# Altium schematic symbol library Power_Board_Parts_Library.SCHLIB: 12 symbols
Pins are listed as number, name and electrical type; pins without a type are passive.

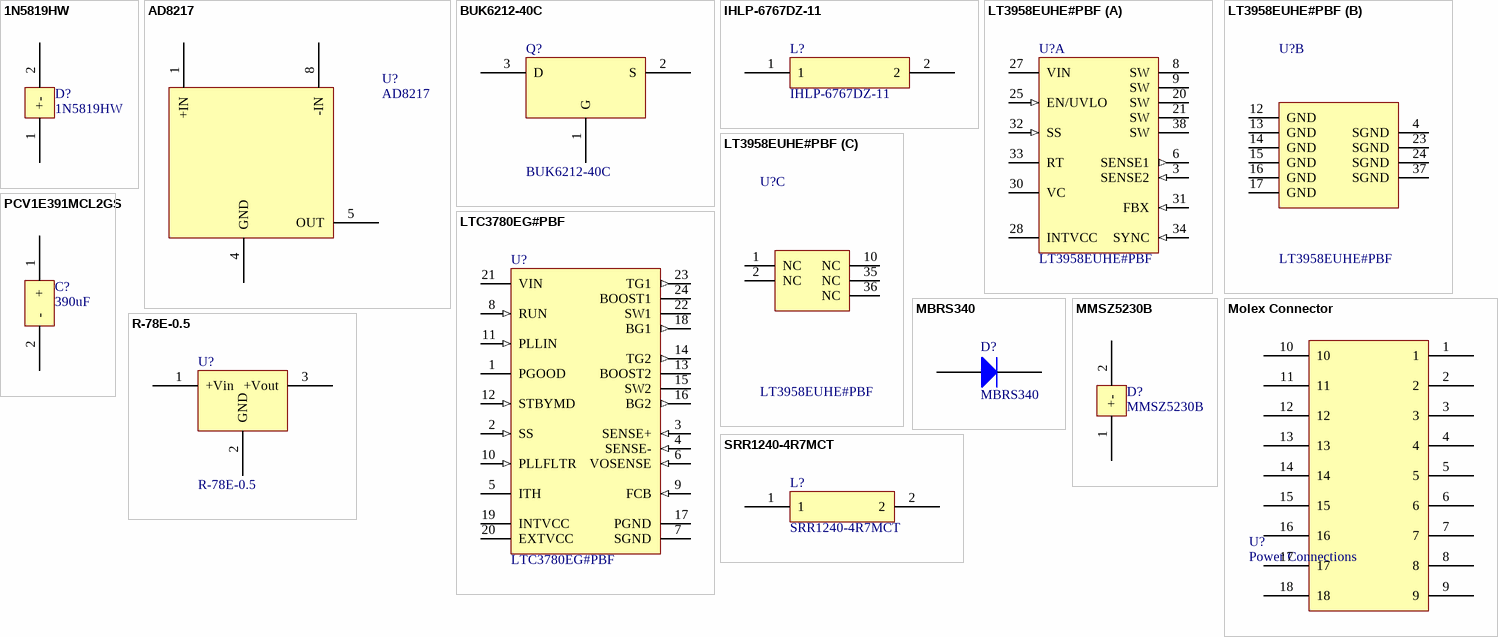
[diagram p0: symbols 1N5819HW to SRR1240-4R7MCT]

## 1N5819HW
designator D?
1A Schottky Barrier Rectifier
footprint 1N5819HW
pins: 1 +, 2 -

## AD8217
designator U?
Current Shunt Moniter
footprint AD8217
pins: 1 +IN, 4 GND, 5 OUT, 8 -IN

## BUK6212-40C
designator Q?
N-Channel TrenchMOS Intermediate Level FET
footprint BUK6212-40C
pins: 1 G, 2 S, 3 D

## IHLP-6767DZ-11
designator L?
Inductor
footprint IHLP-6767DZ-11
pins: 1, 2

## LT3958EUHE#PBF
designator U?
LT3958; Manufacturer: Linear Technology; Frequency Adjust Range: 100kHz - 1MHz; Number of Outputs: 1; ComponentLink1Description: Manufacturer URL; ComponentLink1URL: http://www.linear.com/; ComponentLink2Description: Datasheet; ComponentLink2URL: http://cds.linear.com/docs/en/datasheet/3958f.pdf; ComponentLink3Description: Package Specification; ComponentLink3URL: http://cds.linear.com/docs/en/packaging/QFN_28_05-08-1836.pdf; Mounting Technology: Surface Mount; PackageDescription: 28-Pin Plastic QFN, Body 5 x 6 mm, Pitch 0.5 mm; PackageReference: UHE-36; PackageVersion: Rev. D, 02/2012; PartNumber: LT3958EUHE#PBF; RoHS: TRUE; Supplier 1: Digi-Key; Supplier 2: Farnell; Supplier 3: Newark; Supplier Part Number 1: LT3958EUHE#PBF-ND; Supplier Part Number 2: 2294964; Supplier Part Number 3: 78R9566
footprint LT3958
part A pins: 3 SENSE2 (in) "The Current Sense Input for the Control  Loop. Connect this pin to SENSE1 pin directly or through  a low pass filter (connect this pin to SENSE1 pin through  a resistor, and to SGND through a capacitor).", 6 SENSE1 (out) "The Current Sense Output of the Internal  N-channel MOSFET. Connect this pin to SENSE2 pin  directly or through a low pass filter (connect this pin to  SENSE1 pin through a resistor, then connect SENSE2 to  SGND through a capacitor).", 8 SW (power) "Drain of  Internal Power N-channel MOSFET.", 9 SW (power) "Drain of  Internal Power N-channel MOSFET.", 20 SW (power) "Drain of  Internal Power N-channel MOSFET.", 21 SW (power) "Drain of  Internal Power N-channel MOSFET.", 25 EN/UVLO (in) "Shutdown and Undervoltage Detect  Pin. An accurate 1.22V (nominal) falling threshold with  externally programmable hysteresis detects when power  is okay to enable switching. Rising hysteresis is generated  by the external resistor divider and an accurat", 27 VIN (power) "Input Supply Pin. VIN pin can be locally  bypassed with a capacitor to GND (not SGND).", 28 INTVCC (power) "Regulated Supply for Internal Loads  and Gate Driver. Supplied from VIN and regulated to  7.2V (typical). INTVCC must be bypassed to SGND with a  minimum of 4.7µF capacitor placed close to pin. INTVCC  can be connected directly to VIN, if VIN is less tha", 30 VC "Error Amplifier Compensation Pin. Used to  stabilize the voltage loop with an external RC network.  Place compensation components between the VC pin  and SGND.", 31 FBX (in) "Positive and Negative Feedback Pin. Receives  the feedback voltage from the external resistor  divider between the output and SGND. Also modulates the  switching frequency during start-up and fault conditions  when FBX is close to SGND.", 32 SS (in) "Soft-Start Pin. This pin modulates compensation  pin voltage (VC) clamp. The soft-start interval is  set with an external capacitor between SS pin and SGND.  The pin has a 10µA (typical) pull-up current source to  an internal 2.5V rail. The soft-start pi", 33 RT "Switching Frequency Adjustment Pin. Set  the frequency using a resistor to SGND. Do not leave this  pin open.", 34 SYNC (in) "Frequency Synchronization Pin. Used to  synchronize the switching frequency to an outside clock.  If this feature is used, an RT resistor should be chosen  to program a switching frequency 20% slower than the  SYNC pulse frequency. Tie the SYNC pin to SG", 38 SW (power) "Drain of  Internal Power N-channel MOSFET."
part B pins: 4 SGND (power) "Signal  Ground. All small-signal components should connect to  this ground. SGND is connected to GND inside the IC to  ensure Kelvin connection for the internal switch current  sensing. Do not connect SGND and GND externally.", 12 GND (power) "Ground. These pins connect  to the source terminal of internal power N-channel  MOSFET through an internal sense resistor. GND is connected  to SGND inside the IC to ensure Kelvin connection  for the internal switch current sensing. Do not connect  GND a", 13 GND (power) "Ground. These pins connect  to the source terminal of internal power N-channel  MOSFET through an internal sense resistor. GND is connected  to SGND inside the IC to ensure Kelvin connection  for the internal switch current sensing. Do not connect  GND a", 14 GND (power) "Ground. These pins connect  to the source terminal of internal power N-channel  MOSFET through an internal sense resistor. GND is connected  to SGND inside the IC to ensure Kelvin connection  for the internal switch current sensing. Do not connect  GND a", 15 GND (power) "Ground. These pins connect  to the source terminal of internal power N-channel  MOSFET through an internal sense resistor. GND is connected  to SGND inside the IC to ensure Kelvin connection  for the internal switch current sensing. Do not connect  GND a", 16 GND (power) "Ground. These pins connect  to the source terminal of internal power N-channel  MOSFET through an internal sense resistor. GND is connected  to SGND inside the IC to ensure Kelvin connection  for the internal switch current sensing. Do not connect  GND a", 17 GND (power) "Ground. These pins connect  to the source terminal of internal power N-channel  MOSFET through an internal sense resistor. GND is connected  to SGND inside the IC to ensure Kelvin connection  for the internal switch current sensing. Do not connect  GND a", 23 SGND (power) "Signal  Ground. All small-signal components should connect to  this ground. SGND is connected to GND inside the IC to  ensure Kelvin connection for the internal switch current  sensing. Do not connect SGND and GND externally.", 24 SGND (power) "Signal  Ground. All small-signal components should connect to  this ground. SGND is connected to GND inside the IC to  ensure Kelvin connection for the internal switch current  sensing. Do not connect SGND and GND externally.", 37 SGND (power) "Signal  Ground. All small-signal components should connect to  this ground. SGND is connected to GND inside the IC to  ensure Kelvin connection for the internal switch current  sensing. Do not connect SGND and GND externally."
part C pins: 1 NC "No Internal Connection. Leave  these pins open or connect them to the adjacent pins.", 2 NC "No Internal Connection. Leave  these pins open or connect them to the adjacent pins.", 10 NC "No Internal Connection. Leave  these pins open or connect them to the adjacent pins.", 35 NC "No Internal Connection. Leave  these pins open or connect them to the adjacent pins.", 36 NC "No Internal Connection. Leave  these pins open or connect them to the adjacent pins."

## LTC3780EG#PBF
designator U?
Buck-boost Controller, Constant Frequency, Current Mode Control with Power Good Output, 24-pin SOP (G-24), -40 to 85 degC, Pb-Free; Manufacturer: Linear Technology; Frequency Sync Range: 200kHz - 400kHz; Number of Outputs: 1; PackageDesciption: 24-Pin Plastic SSOP, Body 8.2 x 5.3 mm, Pitch 0.65 mm; ComponentLink1Description: Manufacturer URL; ComponentLink1URL: http://www.linear.com/; ComponentLink2Description: Datasheet; ComponentLink2URL: http://cds.linear.com/docs/en/datasheet/3780ff.pdf; ComponentLink3Description: Package Specification; ComponentLink3URL: http://cds.linear.com/docs/en/packaging/SSOP_24_05-08-1640.pdf; DatasheetVersion: Rev. F; Mounting Technology: Surface Mount; PackageReference: G-24; PackageVersion: Jun-10; PartNumber: LTC3780EG#PBF; RoHS: TRUE; Supplier 1: Digi-Key; Supplier 2: Farnell; Supplier 3: Newark; Supplier Part Number 1: LTC3780EG#PBF-ND; Supplier Part Number 2: 1273545; Supplier Part Number 3: 56M8395
footprint LTC3780 24-Leaqd Plastic SSOP
pins: 1 PGOOD (oc) "Open-Drain Logic Output. PGOOD is puled to ground when the output voltage is not within +/-7.5% of the regulation point.", 2 SS (in) "Soft-start reduces the input power sources' surge currents by gradually increasing the controller's current limit. A minimum value of 6.8nF is recommended on this pin.", 3 SENSE+ (in) "The (+) Input to the Current Sense and Reverse Current Detect Comparators. The ITH pin voltage and built-in offsets between SENSE- and SENSE+ pins, in conjunction with RSENSE, set the current trip threshold.", 4 SENSE- (in) "The (-) Input to the Current Sense and Reverse Current Detect Comparators.", 5 ITH "Current Control Threshold and Error Amplifier Compensation Point. The current comparator threshold increases with this control voltage. The voltage ranges from 0V to 2.4V.", 6 VOSENSE (in) "Error Amplifier Feedback Input. This pin connects the error amplifier input to an external resistor divider from VOUT.", 7 SGND (power) "Signal Ground. All small-signal components and compensation components should connect to this ground, which should be connected to PGND at a single point. The QFN exposed pad must be soldered to PCB ground for electrical (See Datasheet)", 8 RUN (in) "Run Control Input. Forcing the RUN pin below 1.5V causes the IC to shut down the switching regulator circuitry. There is a 100k resistor between the RUN pin and SGND in the IC. Do not appy > 6V to this pin.", 9 FCB (in) "Forced Continuous Control Input. The voltage applied to this pin sets the operating mode of the controller. When the applied voltage is less than 0.8V, the forced continuous current mode is active. When this pin is allowed (See Datasheet)", 10 PLLFLTR (in) "The phase-locked loop's lowpass filter is tied to this pin. Alternativeyl, this pin can be driven with an AC or DC voltage source to vary the frequency of the internal oscillator.", 11 PLLIN (in) "External Synchronization Input to Phase Detector. This pin is internally terminated to SGND with 50kohm. The phase-locked loop will force the rising bottom gate signal of the controller to be synchronized with the rising (See Datasheet)", 12 STBYMD (in) "LDO Control Pin. Determines whether the internal LDO remains active when the controller is shut down. See Operation section for details. If the STBYMD pin is pulled to ground, the SS pin is internally pulled to ground, (See Datasheet)", 13 BOOST2 "Boosted Floating Driver Supply. The (+) terminal of the bootstrap capacitor CA and CB (Figure 11) connects here. The BOOST2 pin swings from a diode voltage below INTVCC up to VIN+ INTVCC. The BOOST1 pin swings from a diode (See Datasheet)", 14 TG2 (out) "Top Gate Drive. Drives the top N-channel MOSFET with a voltage swing equal to INTVCC superimposed on the switch node voltage SW", 15 SW2 "Switch Node. The (-) terminal of the bootstrap capacitor CA and CB (Figure 11) connects here. The SW2 pin swings from a Schottky diode (external) voltage drop below ground up to VIN. The SW1 pin swings from a Schottky diode (See Datasheet)", 16 BG2 (out) "Bottom Gate Drive. Drives the gate of the bottom N-channel MOSFET between ground and INTVCC.", 17 PGND (power) "Power Ground. Connect this pin  closely to the source of the bottom N-channel MOSFET, the  (–) terminal of CVCC and the (–) terminal of CIN (Figure 11).", 18 BG1 (out) "Bottom Gate Drive.  Drives the gate of the bottom N-channel MOSFET between  ground and INTVCC.", 19 INTVCC (power) "Internal 6V Regulator Output. The  driver and control circuits are powered from this voltage.  Bypass this pin to ground with a minimum of 4.7µF low  ESR tantalum or ceramic capacitor.", 20 EXTVCC (power) "External VCC Input. When EXTVCC  exceeds 5.7V, an internal switch connects this pin to  INTVCC and shuts down the internal regulator so that the  controller and gate drive power is drawn from EXTVCC. Do  not exceed 7V at this pin and ensure that EXTVCC <", 21 VIN (power) "Main Input Supply. Bypass this pin  to SGND with an RC filter (1O, 0.1µF).", 22 SW1 "Switch Node. The (–)  terminal of the bootstrap capacitor CA and CB (Figure 11)  connects here. The SW2 pin swings from a Schottky diode  (external) voltage drop below ground up to VIN. The SW1  pin swings from a Schottky diode (external) voltage drop  b", 23 TG1 (out) "Top Gate Drive. Drives  the top N-channel MOSFET with a voltage swing equal to  INTVCC superimposed on the switch node voltage SW.", 24 BOOST1 "Boosted  Floating Driver Supply. The (+) terminal of the bootstrap  capacitor CA and CB (Figure 11) connects here. The BOOST2  pin swings from a diode voltage below INTVCC up to VIN  + INTVCC. The BOOST1 pin swings from a diode voltage  below INTVCC up t"

## MBRS340
designator D?
Schottky Rectifier
footprint MBRS340
pins: 1, 2

## MMSZ5230B
designator D?
Zener Diode
footprint MMSZ5230B
pins: 1 +, 2 -

## Molex Connector
designator U?, comment Power Connections
footprint Molex Connector
pins: 1, 2, 3, 4, 5, 6, 7, 8, 9, 10, 11, 12, 13, 14, 15, 16, 17, 18

## PCV1E391MCL2GS
designator C?, comment 390uF
Aluminum Capacitor
footprint PCV1E391MCL2GS
pins: 1 +, 2 -

## R-78E-0.5
designator U?
DC/DC Converter
footprint R-78E-0.5 (DC/DC Converter)
pins: 1 +Vin, 2 GND, 3 +Vout

## SRR1240-4R7MCT
designator L?
Inductor
footprint SRR1240-4R7M
pins: 1, 2